# Altium footprint library CUI_CVS-3108.PcbLib: 1 footprints
Each footprint in its own frame and in the unit in brackets; x right, y up, seen from the top. Pads: shape width x height; smd on the part's side, far side on the other; paste and mask are expansions set on the pad; w line width, h text height; cw(c..) or ccw(c..) is an arc to the next point about the centre after c.
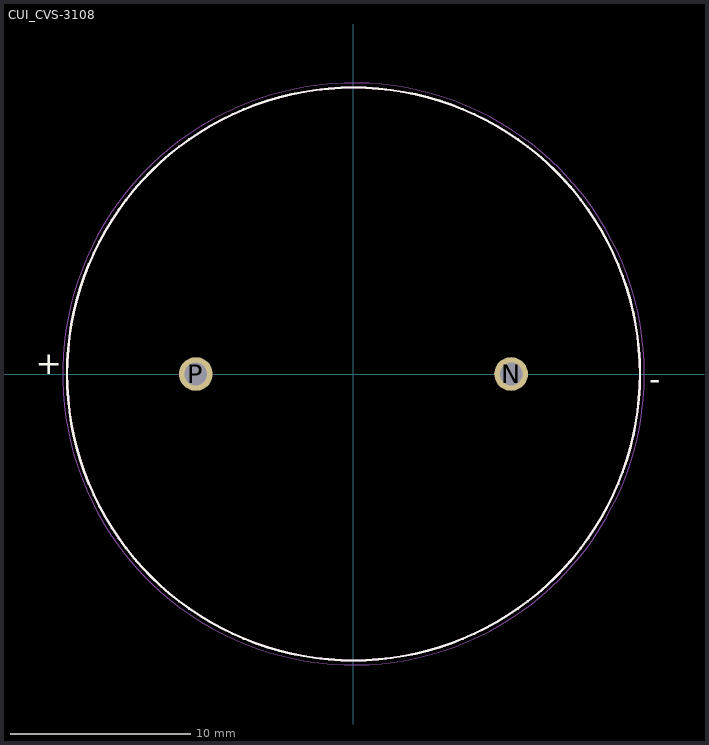
[diagram p0: the footprint, top view; thin cyan lines are the x and y axes]

## CUI_CVS-3108 [mm]
pads (2):
  round 1.875 hole 1.25: N(8.75,0) P(-8.75,0)
Top Overlay:
  circle w0.127: c0,0 r15.9
  text "-" at 16.42,-0.889 h1.27
  text "+" at -17.632,0 h1.27
Mechanical 13:
  circle w0.127: c0,0 r15.9
Mechanical 15:
  circle w0.05: c0,0 r16.15
3D body "cvs-3108.stp": height 15.1, standoff -5.5, extent -15.975,-15.875 15.825,16.925